# Altium schematic symbol library SCH - DIODES - TVS - ST USBLC6-4.SchLib: 1 symbol
Pins are listed as number, name and electrical type; pins without a type are passive.

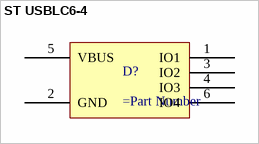
[diagram p0: symbol ST USBLC6-4]

## ST USBLC6-4
designator D?
pins: 1 IO1, 2 GND, 3 IO2, 4 IO3, 5 VBUS, 6 IO4